# Altium schematic symbol library SuperBot_Schlib1.SchLib: 29 symbols
Pins are listed as number, name and electrical type; pins without a type are passive.

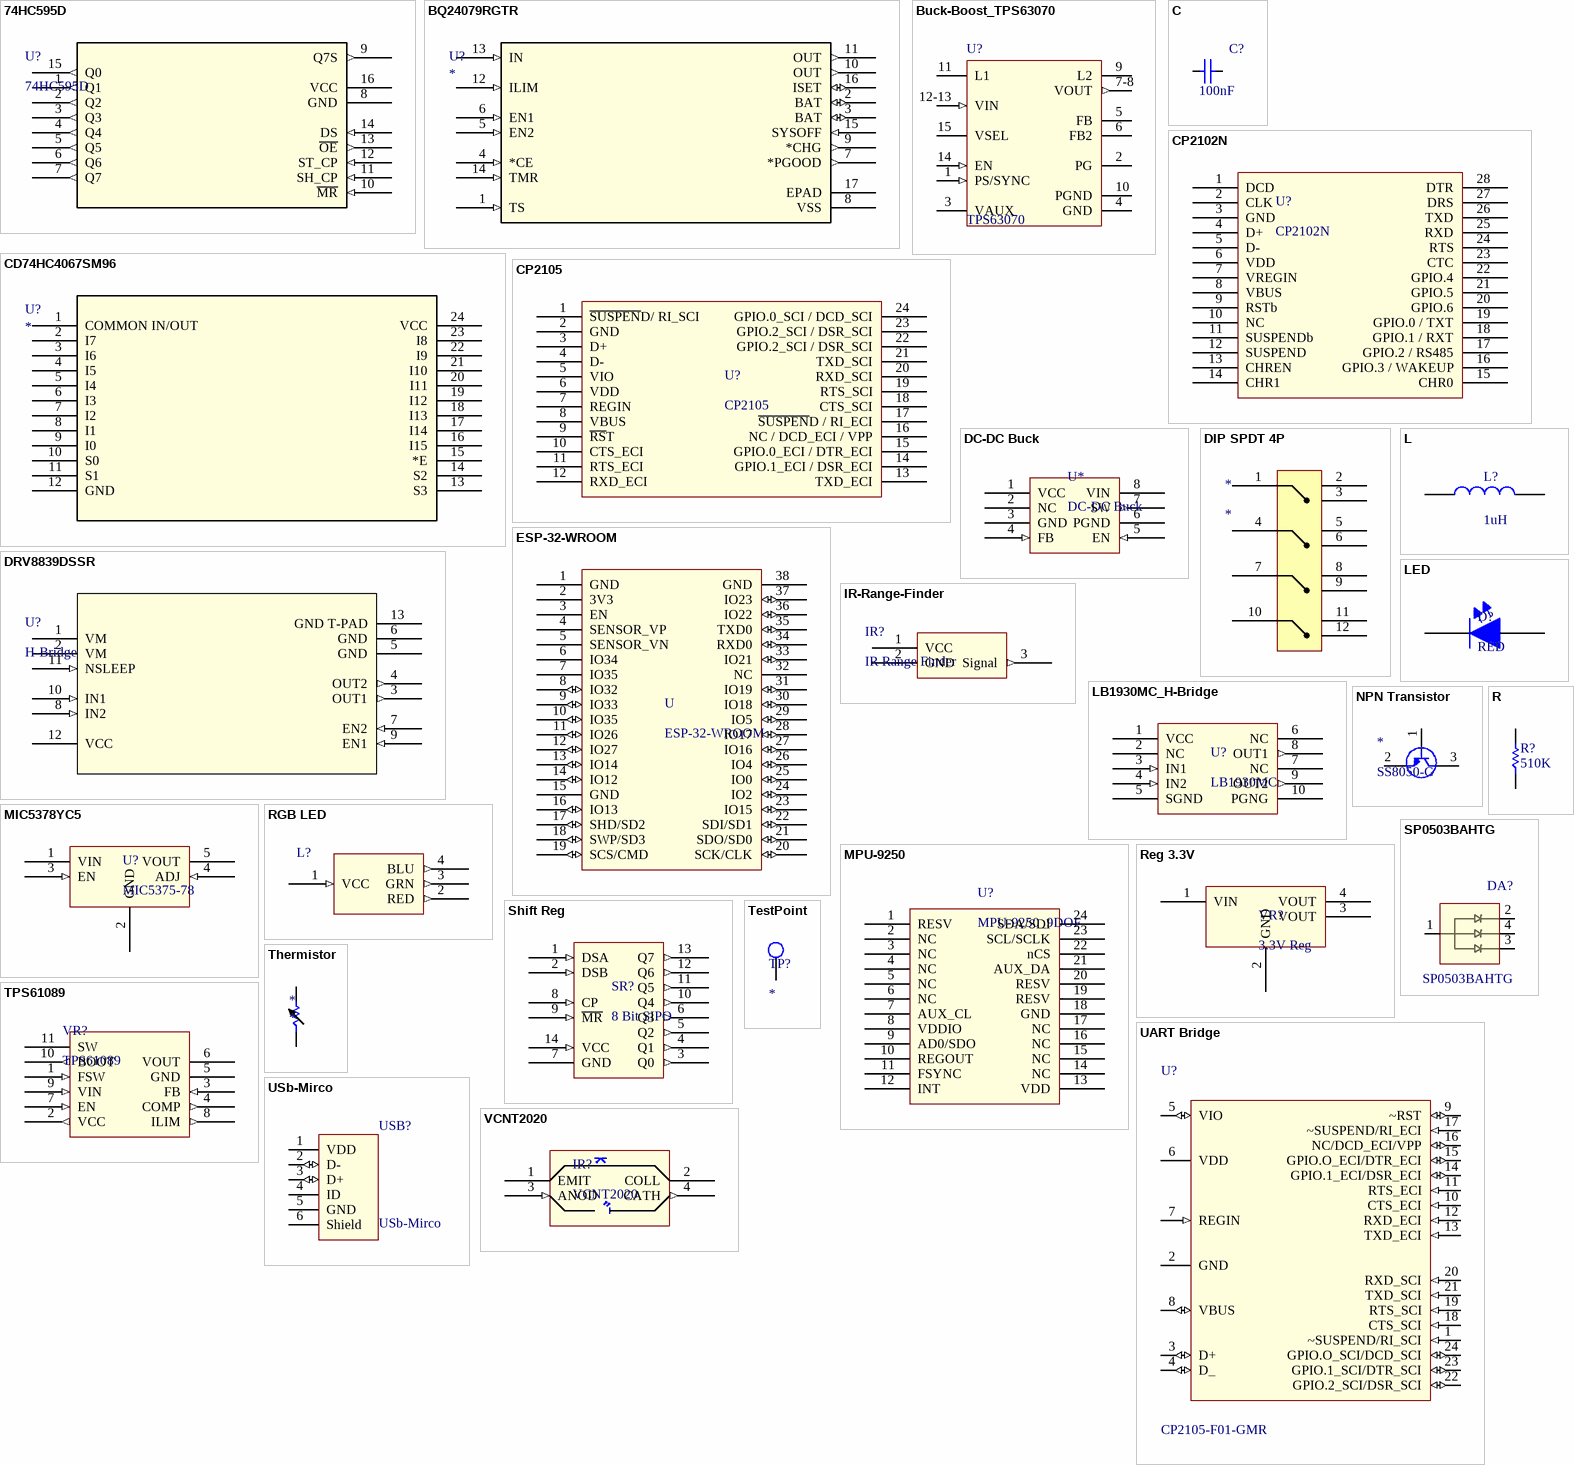
[diagram p0: symbols 74HC595D to VCNT2020]

## 74HC595D
designator U?
Shift Register; Vendor: NXP; Built_By: EMA_UL_Team; C: Copyright (C) 2015 Accelerated Designs. All rights reserved; Manufacturer_Part_Number: 74HC595D; Value: Value; Type: Type; RefDes: RefDes
footprint SOT109-1-M
pins: 1 Q1 (out), 2 Q2 (out), 3 Q3 (out), 4 Q4 (out), 5 Q5 (out), 6 Q6 (out), 7 Q7 (out), 8 GND (power), 9 Q7S (out), 10 ~{MR} (in), 11 SH_CP (in), 12 ST_CP (in), 13 ~{OE} (out), 14 DS (in), 15 Q0 (out), 16 VCC (power)

## BQ24079RGTR
designator U?
Imported; Manufacturer: Texas Instruments; Manufacturer_Part_Number: BQ24079RGTR; Built_By: EMA_UL_Team; C: Copyright (C) 2015 Accelerated Designs. All rights reserved; Vendor: Vendor; Value: Value; Type: Type; RefDes: RefDes
footprint RGT16_1P7X1P7
pins: 1 TS (in), 2 BAT (io), 3 BAT (io), 4 *CE (in), 5 EN2 (in), 6 EN1 (in), 7 *PGOOD (out), 8 VSS (power), 9 *CHG (out), 10 OUT (out), 11 OUT (out), 12 ILIM (in), 13 IN (in), 14 TMR (in), 15 SYSOFF (in), 16 ISET (io), 17 EPAD (power)

## Buck-Boost_TPS63070
designator U?, comment TPS63070
IC REG BCK BST ADJ 2A 15VQFN; Manufacturer Part Num: TPS63070RNMR; Manufacturer: Texas Instruments; Class I: PMCI; Supplier 1: Digikey; Supplier Part Number 1: 296-44874-1-ND
footprint 15-VQFN-HR (3x2.5) (TPS63070RNMR 15-VQFN-HR (3x2.5))
pins: 1 PS/SYNC (in), 2 PG, 3 VAUX, 4 GND (power), 5 FB, 6 FB2, 7-8 VOUT (out), 9 L2, 10 PGND (power), 11 L1, 12-13 VIN (in), 14 EN (in), 15 VSEL

## C
designator C?, comment 100nF
Capacitor; Manufacturer: Microchip Technology; Manufacturer Part Num: MIC5378YC5-TR; Class I: Passive; Revision: July-2002: Re-released for DXP Platform.; Supplier 1: Digikey; Supplier Part Number 1: *; Supplier Part Number 1: 1611-MIC5378YC5-CT-ND; Value: 100nF
footprint CAP0402R (Capacitor 0402 reflow soldering)
footprint CAP0603R (capacitor 0603 reflow soldering)
footprint CAP0805R (capacitor 0805 reflow soldering)
pins: 1, 2

## CD74HC4067SM96
designator U?
Imported; Manufacturer_Part_Number: CD74HC4067SM96; Vendor: Texas Instruments; Built_By: EMA_UL_Team; C: Copyright (C) 2015 Accelerated Designs. All rights reserved; Value: Value; Type: Type; RefDes: RefDes
footprint DB24-M
pins: 1 COMMON IN/OUT, 2 I7, 3 I6, 4 I5, 5 I4, 6 I3, 7 I2, 8 I1, 9 I0, 10 S0, 11 S1, 12 GND (power), 13 S3, 14 S2, 15 *E, 16 I15, 17 I14, 18 I13, 19 I12, 20 I11, 21 I10, 22 I9, 23 I8, 24 VCC (power)

## CP2102N
designator U?
336-3694-ND / , IC BRIDGE USB TO UART 28QFN
footprint QFN28_CP2102n (Medium 5mm)
pins: 1 DCD, 2 CLK, 3 GND, 4 D+, 5 D-, 6 VDD, 7 VREGIN, 8 VBUS, 9 RSTb, 10 NC, 11 SUSPENDb, 12 SUSPEND, 13 CHREN, 14 CHR1, 15 CHR0, 16 GPIO.3 / WAKEUP, 17 GPIO.2 / RS485, 18 GPIO.1 / RXT, 19 GPIO.0 / TXT, 20 GPIO.6, 21 GPIO.5, 22 GPIO.4, 23 CTC, 24 RTS, 25 RXD, 26 TXD, 27 DRS, 28 DTR

## CP2105
designator U?
CP2105-F01-GMRCT-ND / ,IC SGL USB-DL UART BRIDGE 24QFN
footprint QFN24_CP2105 (QFN, 24-Leads, Body 4.00x4.00mm, Pitch 0.50mm, Thermal Pad 2.68x2.68mm, IPC Medium Density)
pins: 1 ~{SUSPEN}D/ RI_SCI, 2 GND, 3 D+, 4 D-, 5 VIO, 6 VDD, 7 REGIN, 8 VBUS, 9 ~{RS}T, 10 CTS_ECI, 11 RTS_ECI, 12 RXD_ECI, 13 TXD_ECI, 14 GPIO.1_ECI / DSR_ECI, 15 GPIO.0_ECI / DTR_ECI, 16 NC / DCD_ECI / VPP, 17 ~{SUSPEN}D / RI_ECI, 18 CTS_SCI, 19 RTS_SCI, 20 RXD_SCI, 21 TXD_SCI, 22 GPIO.2_SCI / DSR_SCI, 23 GPIO.2_SCI / DSR_SCI, 24 GPIO.0_SCI / DCD_SCI

## DC-DC Buck
designator U*
AP3435, 1.0MHz, 3.5A, Synchronous Step Down DC-DC Converter; Manufacturer: Diodes Inc; Manufacturer Part Num: AP3435MPTR-G1; Supplier 1: Digikey; Supplier Part Number 1: AP3435MPTR-G1DICT-ND
footprint SOP8_AP3435 (SOP, 8-Leads, Body 4.90x3.90mm, Pitch 1.27mm, IPC Medium Density)
pins: 1 VCC (power), 2 NC, 3 GND, 4 FB (in), 5 EN (in), 6 PGND, 7 SW (out), 8 VIN (power)

## DIP SPDT 4P
designator *
footprint DIP SPDT 4P (Dip Switch SPDT 4 Position Through Hole Slide (Standard) Actuator 50mA 24VDC)
pins: 1, 2, 3, 4, 5, 6, 7, 8, 9, 10, 11, 12

## DRV8839DSSR
designator U?, comment H-Bridge
1.8A , Half Bridge (2), Driver - Fully Integrated, Control and Power Stage; Manufacturer: Texas Instruments; Manufacturer Part Num: DRV8839DSSR; Class I: PIM; Value: Value; Supplier 1: Digikey; Supplier Part Number 1: 296-35701-1-ND
footprint WSON_0.8mm_DSS0012A (SON, 12-Leads, Body 3.00x2.00mm, Pitch 0.50mm, Thermal Pad 2.00x0.79mm, IPC Medium Density)
pins: 1 VM (power), 2 VM (power), 3 OUT1 (out), 4 OUT2 (out), 5 GND (power), 6 GND (power), 7 EN2 (in), 8 IN2 (in), 9 EN1 (in), 10 IN1 (in), 11 NSLEEP (in), 12 VCC (power), 13 GND T-PAD "GND Thermal pad"

## ESP-32-WROOM
designator U
ESP-32-WROOM, WIFI + BT
footprint ESP-32-WROOM
pins: 1 GND "Ground", 2 3V3 "Power Supply", 3 EN "Chip-Enable signal. Active High", 4 SENSOR_VP "GPIO36, SENSOR_VP, ADC_H, ADC1_CH0, RTC_GPIO0", 5 SENSOR_VN "GPIO39, SENSOR_VN, ADC1_CH3, ADC_H, RTC_GPIO0", 6 IO34 "GPIO34, ADC1_CH6,", 7 IO35 "GPIO35, ADC1_CH7, RTC_GPIO5", 8 IO32 (io) "GPIO32, XTAL_32K_P (32.768 kHz crystal oscillator input), ADC1_CH4, TOUCH9, RTC_GPIO9", 9 IO33 (io) "GPIO33, XTAL_32K_N (32.768 kHz crystal oscillator output), ADC1_CH5, TOUCH8, RTC_GPIO8", 10 IO35 (io) "GPIO25, DAC_1, ADC2_CH8, RTC_GPIO6, EMAC_RXD0", 11 IO26 (io) "GPIO26, DAC_2, ADC2_CH9, RTC_GPIO7, EMAC_RXD1", 12 IO27 (io) "GPIO27, ADC2_CH7, TOUCH7, RTC_GPIO17, EMAC_RX_DV", 13 IO14 (io) "GPIO14, ADC2_CH6, TOUCH6, RTC_GPIO16, MTMS, HSPICLK, HS2_CLK, SD_CLK, EMAC_TXD2", 14 IO12 (io) "GPIO12, ADC2_CH5, TOUCH5, RTC_GPIO15, MTDI, HSPIQ, HS2_DATA2, SD_DATA2, EMAC_TXD3", 15 GND "Ground", 16 IO13 (io) "GPIO13, ADC2_CH4, TOUCH4, RTC_GPIO14, MTCK, HSPID, HS2_DATA3, SD_DATA3, EMAC_RX_ER", 17 SHD/SD2 (io) "GPIO9, SD_DATA2, SPIHD, HS1_DATA2, U1RXD", 18 SWP/SD3 (io) "GPIO10, SD_DATA3, SPIWP, HS1_DATA3, U1TXD", 19 SCS/CMD (io) "GPIO11, SD_CMD, SPICS0, HS1_CMD, U1RTS", 20 SCK/CLK (io) "GPIO6, SD_CLK, SPICLK, HS1_CLK, U1CTS", 21 SDO/SD0 (io) "GPIO7, SD_DATA0, SPIQ, HS1_DATA0, U2RTS", 22 SDI/SD1 (io) "GPIO8, SD_DATA1, SPID, HS1_DATA1, U2CTS", 23 IO15 (io) "GPIO15, ADC2_CH3, TOUCH3, MTDO, HSPICS0, RTC_GPIO13, HS2_CMD, SD_CMD, EMAC_RXD3", 24 IO2 (io) "GPIO2, ADC2_CH2, TOUCH2, RTC_GPIO12, HSPIWP, HS2_DATA0, SD_DATA0", 25 IO0 (io) "GPIO0, ADC2_CH1, TOUCH1, RTC_GPIO11, CLK_OUT1, EMAC_TX_CLK", 26 IO4 (io) "GPIO4, ADC2_CH0, TOUCH0, RTC_GPIO10, HSPIHD, HS2_DATA1, SD_DATA1, EMAC_TX_ER", 27 IO16 (io) "GPIO16, HS1_DATA4, U2RXD, EMAC_CLK_OUT", 28 IO17 (io) "GPIO17, HS1_DATA5, U2TXD, EMAC_CLK_OUT_180", 29 IO5 (io) "GPIO5, VSPICS0, HS1_DATA6, EMAC_RX_CLK", 30 IO18 (io) "GPIO18, VSPICLK, HS1_DATA7", 31 IO19 (io) "GPIO19, VSPIQ, U0CTS, EMAC_TXD0", 32 NC, 33 IO21 (io) "GPIO21, VSPIHD, EMAC_TX_EN", 34 RXD0 (io) "GPIO3, U0RXD, CLK_OUT2", 35 TXD0 (io) "GPIO1, U0TXD, CLK_OUT3, EMAC_RXD2", 36 IO22 (io) "GPIO22, VSPIWP, U0RTS, EMAC_TXD1", 37 IO23 (io) "GPIO23, VSPID, HS1_STROBE", 38 GND "Ground"

## IR-Range-Finder
designator IR?, comment IR Range Finder
Sharp IR GP2Y0A21YK0F; Supplier 1: Digikey
footprint H3 (Headers 0.1mil pitch)
footprint B3B-PH-K-S
pins: 1 VCC (power), 2 GND, 3 Signal (out)

## L
designator L?, comment 1uH
Inductor; Supplier 1: Digikey; Supplier Part Number 1: *; Value: 1uH
footprint RES0805R (resistor 0805 reflow soldering)
footprint RES0603R (resistor 0603 reflow soldering)
footprint RES0402R (resistor 0402 reflow soldering)
footprint 744031004 (Wurth Inductor)
pins: 1, 2

## LB1930MC_H-Bridge
designator U?, comment LB1930MC
Motor Driver Bipolar Parallel 10-SOIC; Manufacturer: ON Semiconductor; Manufacturer Part Num: LB1930MC-AH; Supplier 1: Digikey; Supplier Part Number 1: 869-1264-1-ND
footprint SOIC10_LB1930MC (SOP, 10-Leads, Body 4.90x3.90mm, Pitch 1.00mm, IPC Medium Density)
pins: 1 VCC (power), 2 NC, 3 IN1 (in), 4 IN2 (in), 5 SGND, 6 NC, 7 NC, 8 OUT1 (out), 9 OUT2 (out), 10 PGNG

## LED
designator D?, comment RED
LED; Color: RED; Supplier 1: Digikey
footprint LED0603 (ROHM LED 0603 SML-D12x1 Series)
footprint 0603_LED
pins: A ANODE, K CATHODE

## MIC5378YC5
designator U?, comment MIC5375-78
Linear Voltage Regulator IC Positive Adjustable 1 Output 1.5 V ~ 4.5 V 150mA SC-70-5; Manufacturer: Microchip Technology; Manufacturer Part Num: MIC5378YC5-TR; Supplier 1: Digikey; Supplier Part Number 1: 1611-MIC5378YC5-CT-ND
footprint TSOP5_MIC537X (TSOP, 6-Leads, Body 2.03x1.25mm, Pitch 0.65mm, IPC Medium Density)
pins: 1 VIN (power), 2 GND (power), 3 EN (in), 4 ADJ (in), 5 VOUT (power)

## MPU-9250
designator U?, comment MPU-9250_9DOF
IMU ACCEL/GYRO/MAG I2C/SPI 24QFN
footprint QFN424_MPU-9250 (QFN, 24-Leads, Body 3.00x3.00mm, Pitch 0.40mm, Thermal Pad 1.70x1.54mm, IPC Medium Density)
pins: 1 RESV, 2 NC, 3 NC, 4 NC, 5 NC, 6 NC, 7 AUX_CL, 8 VDDIO, 9 AD0/SDO, 10 REGOUT, 11 FSYNC, 12 INT, 13 VDD, 14 NC, 15 NC, 16 NC, 17 NC, 18 GND, 19 RESV, 20 RESV, 21 AUX_DA, 22 nCS, 23 SCL/SCLK, 24 SDA/SDI

## NPN Transistor
designator *, comment SS8050-G
footprint SOT23-SS8050-G (SOT23, 3-Leads, Body 2.90x2.40mm, Pitch 0.95mm, IPC Low Density)
pins: 1 BASE, 2 EMTTR, 3 CLCTR

## R
designator R?, comment 510K
Resistor; Supplier 1: Digikey; Supplier Part Number 1: *; Value: 510K
footprint RES0402R (resistor 0402 reflow soldering)
footprint RES0603R (resistor 0603 reflow soldering)
footprint RES0805R (resistor 0805 reflow soldering)
pins: 1, 2

## Reg 3.3V
designator VR?, comment 3.3V Reg
AP2114H-3.3TRG1; Manufacturer: Diodes Inc; Value: Value; Manufacturer Part Num: AP2114H-3.3TRG1; Supplier 1: Digikey
footprint SOT223_AP2114 (SOT223, 4-Leads, Body 6.50x7.00mm (avg), Pitch 2.30mm, IPC Medium Density)
pins: 1 VIN (power), 2 GND (power), 3 VOUT (power), 4 VOUT (power)

## RGB LED
designator L?
Red, Green, Blue (RGB) 622nm Red, 528nm Green, 468nm Blue LED Indication - Discrete 2V Red, 3.1V Green, 3.1V Blue 4-PLCC; Manufacturer: Cree Inc; Manufacturer Part Num: CLV1L-FKB-CJMNQEGBB7673673; Supplier 1: Digikey; Supplier Part Number 1: CLV1L-FKB-CJMNQEGBB7673673CT-ND
footprint RGB LED (Leaded Chip Carrier, 6-Leads, Body 3.55x2.80mm, Pitch 1.400mm, IPC Low Density)
pins: 1 VCC (in), 2 RED (out), 3 GRN (out), 4 BLU (out)

## Shift Reg
designator SR?, comment 8 Bit SIPO
8 bit 74HC164D Shift Reg SIPO; Manufacturer Part Num: 74HC164D,653; Supplier 1: Digikey; Supplier Part Number 1: 1727-2787-1-ND
footprint SOT109-1-M
pins: 1 DSA (in), 2 DSB (in), 3 Q0 (out), 4 Q1 (out), 5 Q2 (out), 6 Q3 (out), 7 GND, 8 CP (in), 9 ~{MR} (in), 10 Q4 (out), 11 Q5 (out), 12 Q6 (out), 13 Q7 (out), 14 VCC (in)

## SP0503BAHTG
designator DA?
TVS DIODE 5.5VWM 8.5VC SOT143; Manufacturer: Littelfuse; Manufacturer Part Num: SP0503BAHTG; Value: *; Supplier 1: Digikey; Supplier Part Number 1: F2715CT-ND
footprint SOT143_SP0503BAHT (SOT143, 4-Leads, Body 2.92x2.37mm, Pitch 1.90mm, IPC Medium Density)
pins: 1 GND, 2 A, 3 B, 4 C

## TestPoint
designator TP?  (no BOM)
Test Point; Supplier 1: Digikey
footprint TestPoint (Test Point)
pins: 0 TP

## Thermistor
designator *
footprint RES0603R (resistor 0603 reflow soldering)
pins: 1, 2

## TPS61089
designator VR?
Boost Switching Regulator IC Positive Adjustable 4.5V 1 Output 7A 11-VFQFN; Manufacturer: Texas Instruments; Manufacturer Part Num: TPS61089RNRT; Class I: PMIC; Supplier 1: Digikey; Supplier Part Number 1: 296-46242-1-ND
footprint VQFN_RNR0011A_1mm (QFN, 12-Leads, Body 2.50x2.00mm, Pitch 0.70mm/0.50mm, IPC Medium Density)
pins: 1 FSW (in), 2 VCC (out), 3 FB (in), 4 COMP (out), 5 GND (power), 6 VOUT (power), 7 EN (in), 8 ILIM (out), 9 VIN (in), 10 BOOT (out), 11 SW (power)

## UART Bridge
designator U?, comment CP2105-F01-GMR
IC SGL USB-DL UART BRIDGE 24QFN, CP2105-F01-GMR; Manufacturer: Silicon Labs; Manufacturer Part Num: CP2105-F01-GMR; Value: *; Supplier 1: Digikey; Supplier Part Number 1: CP2105-F01-GMRCT-ND
footprint QFN24_CP2105 (QFN, 24-Leads, Body 4.00x4.00mm, Pitch 0.50mm, Thermal Pad 2.68x2.68mm, IPC Medium Density)
pins: 1 ~SUSPEND/RI_SCI (in), 2 GND (power), 3 D+ (io), 4 D_ (io), 5 VIO (io), 6 VDD (power), 7 REGIN (in), 8 VBUS (io), 9 ~RST (io), 10 CTS_ECI (in), 11 RTS_ECI (in), 12 RXD_ECI (in), 13 TXD_ECI (in), 14 GPIO.1_ECI/DSR_ECI (io), 15 GPIO.O_ECI/DTR_ECI (io), 16 NC/DCD_ECI/VPP (io), 17 ~SUSPEND/RI_ECI (in), 18 CTS_SCI (in), 19 RTS_SCI (in), 20 RXD_SCI (in), 21 TXD_SCI (in), 22 GPIO.2_SCI/DSR_SCI (io), 23 GPIO.1_SCI/DTR_SCI (io), 24 GPIO.O_SCI/DCD_SCI (io)

## USb-Mirco
designator USB?
USb-Mirco, CONN RCPT MCR USB B SMD TH SHLL; Manufacturer Part Num: ZX62D-B-5P8; Manufacturer: Hirose; Value: *; Supplier 1: Digikey
footprint USB_micro_through
pins: 1 VDD (power), 2 D- (io), 3 D+ (io), 4 ID, 5 GND (power), 6 Shield

## VCNT2020
designator IR?
Reflective Optical Sensor with Transistor Output; Manufacturer: Vishay Semiconductor; Class I: Sensor; Manufacturer Part Num: VCNT2020; Supplier 1: Digikey; Supplier Part Number 1: VCNT2020CT-ND
footprint VCNT2020
pins: 1 EMIT (oe), 2 COLL (oc), 3 ANOD (in), 4 CATH (out)